# Altium footprint library USB-3.0-A-TH_HC-ST-003-01-Z.PcbLib: 1 footprints
Each footprint in its own frame and in the unit in brackets; x right, y up, seen from the top. Pads: shape width x height; smd on the part's side, far side on the other; paste and mask are expansions set on the pad; w line width, h text height; cw(c..) or ccw(c..) is an arc to the next point about the centre after c.
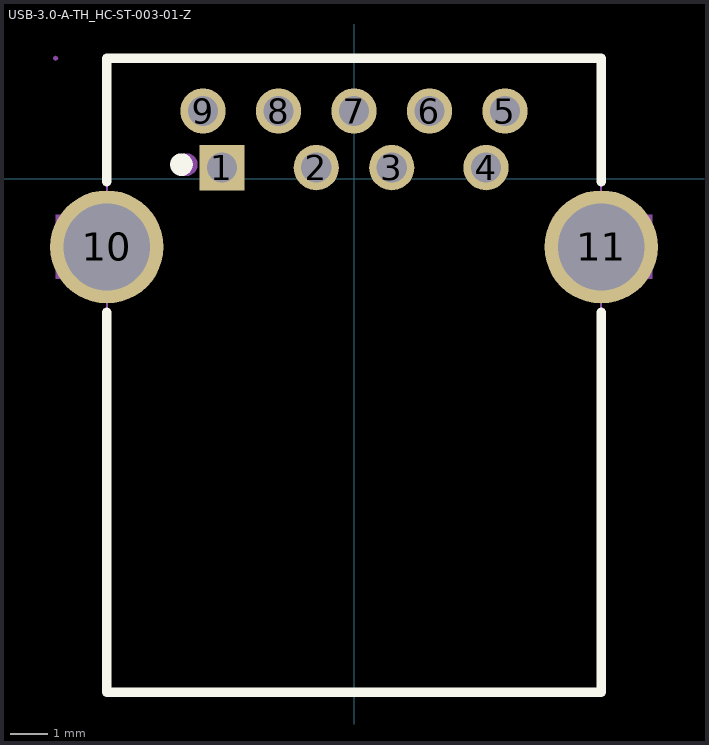
[diagram p0: the footprint, top view; thin cyan lines are the x and y axes]

## USB-3.0-A-TH_HC-ST-003-01-Z [mm]
pads (11):
  rect 1.2x1.2 / inner round 1.524 / far side round 1.524 hole 0.8 paste+0 mask+0.05: 1(-3.5,0.3)
  round 1.2 / inner round 1.524 / far side round 1.524 hole 0.8 paste+0 mask+0.05: 2(-1,0.3) 3(1,0.3) 4(3.5,0.3) 5(4,1.8) 6(2,1.8) 7(0,1.8) 8(-2,1.8) 9(-4,1.8)
  round 3 / inner round 1.524 / far side round 1.524 hole 2.3 paste+0 mask+0.05: 10(-6.55,-1.8) 11(6.55,-1.8)
Top Overlay:
  circle w0.3: c-4.572,0.381 r0.15
  lines w0.254: -6.55,-3.531 -6.55,-13.6 6.55,-13.6 6.55,-3.531 ; -6.55,-0.069 -6.55,3.2 6.55,3.2 6.55,-0.069
Mechanical 6:
  circle w0.3: c-4.445,0.381 r0.15
Mechanical 15:
  region: -3.7,0.45 -3.3,0.45 -3.3,0.15 -3.7,0.15
  region: -1.2,0.45 -0.8,0.45 -0.8,0.15 -1.2,0.15
  region: 0.8,0.45 1.2,0.45 1.2,0.15 0.8,0.15
  region: 3.3,0.45 3.7,0.45 3.7,0.15 3.3,0.15
  region: 3.8,1.95 4.2,1.95 4.2,1.65 3.8,1.65
  region: 1.8,1.95 2.2,1.95 2.2,1.65 1.8,1.65
  region: -0.2,1.95 0.2,1.95 0.2,1.65 -0.2,1.65
  region: -2.2,1.95 -1.8,1.95 -1.8,1.65 -2.2,1.65
  region: -4.2,1.95 -3.8,1.95 -3.8,1.65 -4.2,1.65
  region: 6.4,-2.65 6.4,-0.95 6.7,-0.95 6.7,-2.65
  region: -6.7,-2.65 -6.7,-0.95 -6.4,-0.95 -6.4,-2.65
  region: 6.5,-2.65 6.5,-0.95 7.904,-0.95 7.904,-2.65
  region: -6.5,-0.95 -6.5,-2.65 -7.904,-2.65 -7.904,-0.95
  region: -7.84,3.2 -7.858,3.244 -7.904,3.263 -7.95,3.244 -7.968,3.2 -7.95,3.156 -7.904,3.137 -7.858,3.156 -7.84,3.2
  lines w0.051: -6.55,-13.6 -6.55,3.2 6.55,3.2 6.55,-13.6 -6.55,-13.6